# Altium schematic symbol library RM42.SCHLIB: 1 symbol
Pins are listed as number, name and electrical type; pins without a type are passive.

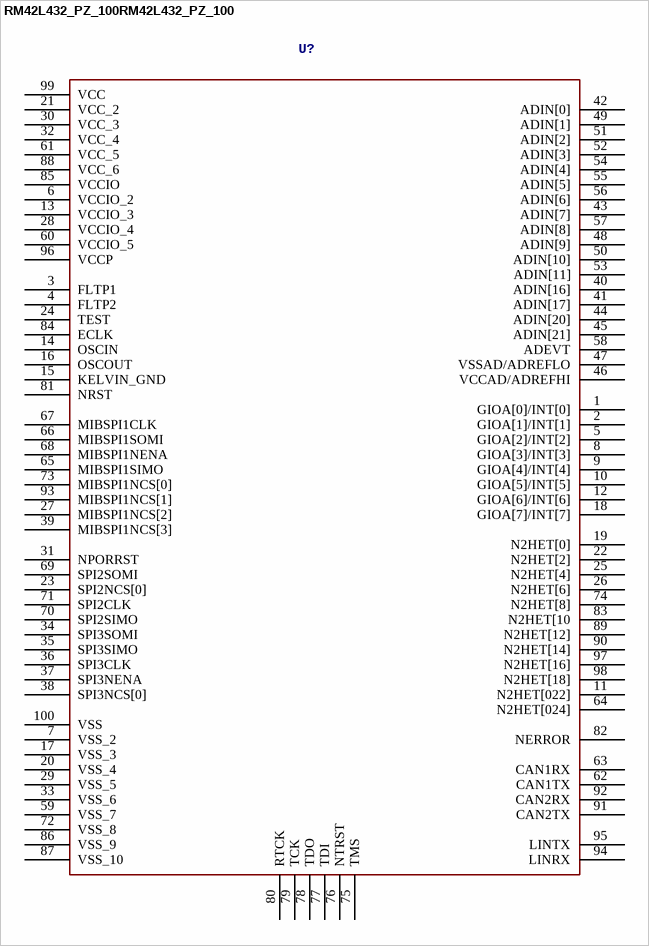
[diagram p0: symbol RM42L432_PZ_100RM42L432_PZ_100]

## RM42L432_PZ_100RM42L432_PZ_100
designator U?
MANUFACTURER_PART_NUMBER: rm42l432_pz_100; VENDOR: TEXAS INSTRUMENTS
footprint PZ100
pins: 1 GIOA[0]/INT[0], 2 GIOA[1]/INT[1], 3 FLTP1, 4 FLTP2, 5 GIOA[2]/INT[2], 6 VCCIO_2 (power), 7 VSS_2 (power), 8 GIOA[3]/INT[3], 9 GIOA[4]/INT[4], 10 GIOA[5]/INT[5], 11 N2HET[022], 12 GIOA[6]/INT[6], 13 VCCIO_3 (power), 14 OSCIN, 15 KELVIN_GND, 16 OSCOUT, 17 VSS_3 (power), 18 GIOA[7]/INT[7], 19 N2HET[0], 20 VSS_4 (power), 21 VCC_2 (power), 22 N2HET[2], 23 SPI2NCS[0], 24 TEST, 25 N2HET[4], 26 N2HET[6], 27 MIBSPI1NCS[2], 28 VCCIO_4 (power), 29 VSS_5 (power), 30 VCC_3 (power), 31 NPORRST, 32 VCC_4 (power), 33 VSS_6 (power), 34 SPI3SOMI, 35 SPI3SIMO, 36 SPI3CLK, 37 SPI3NENA, 38 SPI3NCS[0], 39 MIBSPI1NCS[3], 40 ADIN[16], 41 ADIN[17], 42 ADIN[0], 43 ADIN[7], 44 ADIN[20], 45 ADIN[21], 46 VCCAD/ADREFHI, 47 VSSAD/ADREFLO, 48 ADIN[9], 49 ADIN[1], 50 ADIN[10], 51 ADIN[2], 52 ADIN[3], 53 ADIN[11], 54 ADIN[4], 55 ADIN[5], 56 ADIN[6], 57 ADIN[8], 58 ADEVT, 59 VSS_7 (power), 60 VCCIO_5 (power), 61 VCC_5 (power), 62 CAN1TX, 63 CAN1RX, 64 N2HET[024], 65 MIBSPI1SIMO, 66 MIBSPI1SOMI, 67 MIBSPI1CLK, 68 MIBSPI1NENA, 69 SPI2SOMI, 70 SPI2SIMO, 71 SPI2CLK, 72 VSS_8 (power), 73 MIBSPI1NCS[0], 74 N2HET[8], 75 TMS, 76 NTRST, 77 TDI, 78 TDO, 79 TCK, 80 RTCK, 81 NRST, 82 NERROR, 83 N2HET[10, 84 ECLK, 85 VCCIO (power), 86 VSS_9 (power), 87 VSS_10 (power), 88 VCC_6 (power), 89 N2HET[12], 90 N2HET[14], 91 CAN2TX, 92 CAN2RX, 93 MIBSPI1NCS[1], 94 LINRX, 95 LINTX, 96 VCCP (power), 97 N2HET[16], 98 N2HET[18], 99 VCC (power), 100 VSS (power)